# Altium footprint library KNX_MCU_8CH_V1.2.PcbLib: 28 footprints (part 2 of 2)
Each footprint in its own frame and in the unit in brackets; x right, y up, seen from the top. Pads: shape width x height; smd on the part's side, far side on the other; paste and mask are expansions set on the pad; w line width, h text height; cw(c..) or ccw(c..) is an arc to the next point about the centre after c.
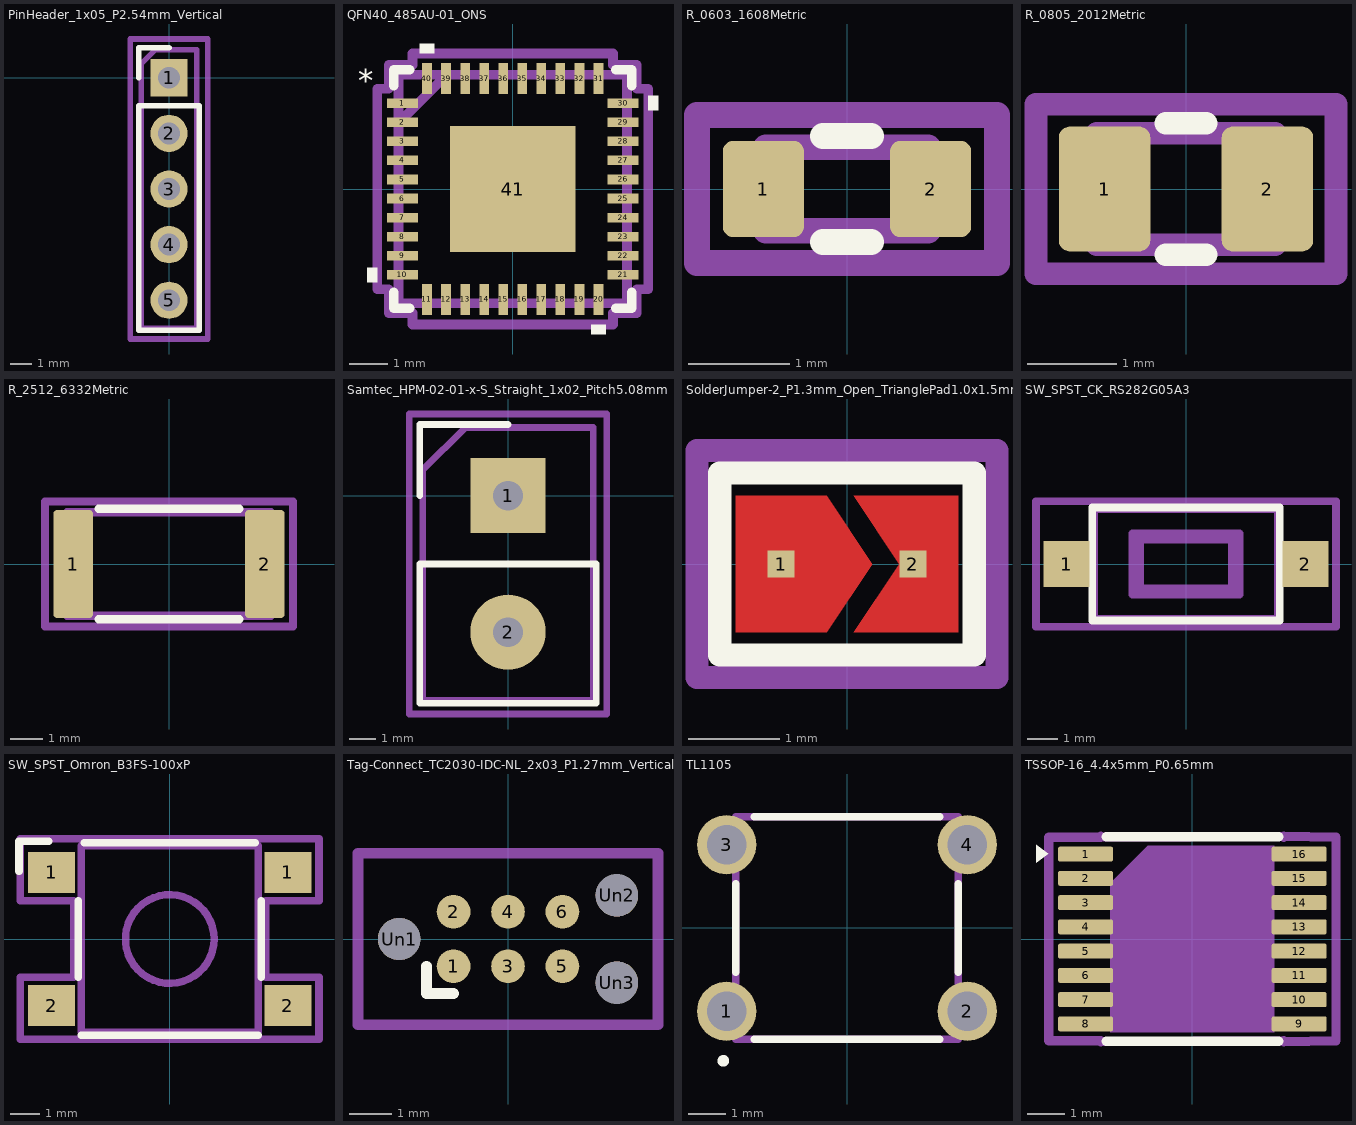
[diagram p1: the footprints below, top view; thin cyan lines are the x and y axes]

## PinHeader_1x05_P2.54mm_Vertical [mm]
pads (5):
  rect 1.7x1.7 hole 1 mask+0.05: 1(0,0)
  round 1.7 hole 1 mask+0.05: 2(0,-2.54) 3(0,-5.08) 4(0,-7.62) 5(0,-10.16)
Top Overlay:
  lines w0.254: -1.38,0 -1.38,1.38 0,1.38 ; -1.38,-11.54 1.38,-11.54 1.38,-1.27 -1.38,-1.27 -1.38,-11.54
Mechanical 30:
  lines w0.254: -1.77,-11.93 1.77,-11.93 1.77,1.77 -1.77,1.77 -1.77,-11.93
Mechanical35:
  lines w0.254: -1.27,-11.43 -1.27,0.635 -0.635,1.27 1.27,1.27 1.27,-11.43 -1.27,-11.43
  text "'.Designator'" at -0.364,-4.85 h1

## QFN40_485AU-01_ONS [mil]
pads (41):
  rect 32x10 smd mask+1.97: 1(-114,88.58) 2(-114,68.9) 3(-114,49.21) 4(-114,29.53) 5(-114,9.84) 6(-114,-9.84) 7(-114,-29.53) 8(-114,-49.21) 9(-114,-68.9) 10(-114,-88.58) 21(114,-88.58) 22(114,-68.9) 23(114,-49.21) 24(114,-29.53) 25(114,-9.84) 26(114,9.84) 27(114,29.53) 28(114,49.21) 29(114,68.9) 30(114,88.58)
  rect 10x32 smd mask+1.97: 11(-88.58,-114) 12(-68.9,-114) 13(-49.21,-114) 14(-29.53,-114) 15(-9.84,-114) 16(9.84,-114) 17(29.53,-114) 18(49.21,-114) 19(68.9,-114) 20(88.58,-114) 31(88.58,114) 32(68.9,114) 33(49.21,114) 34(29.53,114) 35(9.84,114) 36(-9.84,114) 37(-29.53,114) 38(-49.21,114) 39(-68.9,114) 40(-88.58,114)
  rect 130x130 smd mask+1.97: 41(0,0)
Top Overlay:
  region: -81.08,140 -96.08,140 -96.08,150 -81.08,150
  region: 150,81.08 140,81.08 140,96.08 150,96.08
  region: -140,-96.08 -150,-96.08 -150,-81.08 -140,-81.08
  region: 96.08,-150 81.08,-150 81.08,-140 96.08,-140
  lines w10: -123,-106.68 -123,-123 -106.68,-123 ; -123,106.68 -123,123 -106.68,123 ; 106.68,-123 123,-123 123,-106.68 ; 106.68,123 123,123 123,106.68
  text "*" at -159.81,93.82 h39.37
  text "*" at -159.81,93.82 h39.37
Top Paste:
  region: 61.06,3.94 3.94,3.94 3.94,61.06 61.06,61.06
  region: -3.94,3.94 -61.06,3.94 -61.06,61.06 -3.94,61.06
  region: 61.06,-61.06 3.94,-61.06 3.94,-3.94 61.06,-3.94
  region: -3.94,-61.06 -61.06,-61.06 -61.06,-3.94 -3.94,-3.94
Mechanical 30:
  lines w10: -140,-103.58 -128,-103.58 -128,-128 -103.58,-128 -103.58,-140 103.58,-140 103.58,-128 128,-128 128,-103.58 140,-103.58 140,103.58 128,103.58 128,128 103.58,128 103.58,140 -103.58,140 -103.58,128 -128,128 -128,103.58 -140,103.58 -140,-103.58
Mechanical35:
  lines w10: -118,68 -68,118 ; -118,-118 -118,118 118,118 118,-118 -118,-118 ; -118,-94.58 -118,-82.58 -118,-94.58 ; -118,-74.9 -118,-62.9 -118,-74.9 ; -118,-55.21 -118,-43.21 -118,-55.21 ; -118,-35.53 -118,-23.53 -118,-35.53 ; -118,-15.84 -118,-3.84 -118,-15.84 ; -118,3.84 -118,15.84 -118,3.84 ; -118,23.53 -118,35.53 -118,23.53 ; -118,43.21 -118,55.21 -118,43.21 ; -118,62.9 -118,74.9 -118,62.9 ; -118,82.58 -118,94.58 -118,82.58 ; -94.58,-118 -82.58,-118 -94.58,-118 ; -94.58,118 -82.58,118 -94.58,118 ; -74.9,-118 -62.9,-118 -74.9,-118 ; -74.9,118 -62.9,118 -74.9,118 ; -55.21,-118 -43.21,-118 -55.21,-118 ; -55.21,118 -43.21,118 -55.21,118 ; -35.53,-118 -23.53,-118 -35.53,-118 ; -35.53,118 -23.53,118 -35.53,118 ; -15.84,-118 -3.84,-118 -15.84,-118 ; -15.84,118 -3.84,118 -15.84,118 ; 3.84,-118 15.84,-118 3.84,-118 ; 3.84,118 15.84,118 3.84,118 ; 23.53,-118 35.53,-118 23.53,-118 ; 23.53,118 35.53,118 23.53,118 ; 43.21,-118 55.21,-118 43.21,-118 ; 43.21,118 55.21,118 43.21,118 ; 62.9,-118 74.9,-118 62.9,-118 ; 62.9,118 74.9,118 62.9,118 ; 82.58,-118 94.58,-118 82.58,-118 ; 82.58,118 94.58,118 82.58,118 ; 118,-94.58 118,-82.58 118,-94.58 ; 118,-74.9 118,-62.9 118,-74.9 ; 118,-55.21 118,-43.21 118,-55.21 ; 118,-35.53 118,-23.53 118,-35.53 ; 118,-15.84 118,-3.84 118,-15.84 ; 118,3.84 118,15.84 118,3.84 ; 118,23.53 118,35.53 118,23.53 ; 118,43.21 118,55.21 118,43.21 ; 118,62.9 118,74.9 118,62.9 ; 118,82.58 118,94.58 118,82.58
  text "*" at -102.81,93.82 h39.37
  text "*" at -102.81,93.82 h39.37
  text "'.Designator'" at -9.45,-11.07 h39.37

## R_0603_1608Metric [mm]
pads (2):
  rrect25% 0.8x0.95 smd mask+0.05: 1(-0.825,0) 2(0.825,0)
Top Overlay:
  lines w0.254: -0.237,-0.523 0.237,-0.523 ; -0.237,0.523 0.237,0.523
Mechanical 30:
  lines w0.254: -1.48,-0.73 -1.48,0.73 1.48,0.73 1.48,-0.73 -1.48,-0.73
Mechanical35:
  lines w0.254: -0.8,-0.413 -0.8,0.413 0.8,0.413 0.8,-0.413 -0.8,-0.413
  text "'.Designator'" at -0.16,-0.114 h0.4

## R_0805_2012Metric [mm]
pads (2):
  rrect24% 1.025x1.4 smd mask+0.05: 1(-0.913,0) 2(0.913,0)
Top Overlay:
  lines w0.254: -0.227,-0.735 0.227,-0.735 ; -0.227,0.735 0.227,0.735
Mechanical 30:
  lines w0.254: -1.68,-0.95 -1.68,0.95 1.68,0.95 1.68,-0.95 -1.68,-0.95
Mechanical35:
  lines w0.254: -1,-0.625 -1,0.625 1,0.625 1,-0.625 -1,-0.625
  text "'.Designator'" at -0.204,-0.143 h0.5

## R_2512_6332Metric [mm]
pads (2):
  rrect20% 1.225x3.35 smd mask+0.05: 1(-2.963,0) 2(2.963,0)
Top Overlay:
  lines w0.254: -2.177,-1.71 2.177,-1.71 ; -2.177,1.71 2.177,1.71
Mechanical 30:
  lines w0.254: -3.83,-1.93 3.83,-1.93 3.83,1.93 -3.83,1.93 -3.83,-1.93
Mechanical35:
  lines w0.254: -3.15,-1.6 3.15,-1.6 3.15,1.6 -3.15,1.6 -3.15,-1.6
  text "'.Designator'" at 0.414,0.285 h1

## Samtec_HPM-02-01-x-S_Straight_1x02_Pitch5.08mm [mm]
pads (2):
  rect 2.8x2.8 hole 1.1 mask+0.05: 1(0,0)
  round 2.8 hole 1.1 mask+0.05: 2(0,-5.08)
Top Overlay:
  lines w0.254: -3.285,0 -3.285,2.65 0,2.65 ; -3.285,-7.73 3.285,-7.73 3.285,-2.54 -3.285,-2.54 -3.285,-7.73
Mechanical 30:
  lines w0.254: -3.68,-8.13 3.68,-8.13 3.68,3.04 -3.68,3.04 -3.68,-8.13
Mechanical35:
  lines w0.254: -3.175,-7.62 -3.175,0.953 -1.587,2.54 3.175,2.54 3.175,-7.62 -3.175,-7.62
  text "'.Designator'" at -0.361,-2.346 h1
3D body: height 15, standoff 0, extent -0.5,-0.5 0.5,0.5
3D body: height 15, standoff 0, extent -0.5,-5.58 0.5,-4.58

## SolderJumper-2_P1.3mm_Open_TrianglePad1.0x1.5mm [mm]
pads (2):
  rect 0.3x0.3 smd paste-0.3 mask+0.05: 1(-0.725,0) 2(0.725,0)
Top Layer:
  region: 1.225,-0.75 0.075,-0.75 0.575,0 0.075,0.75 1.225,0.75
  region: 0.275,0 -0.225,-0.75 -1.225,-0.75 -1.225,0.75 -0.225,0.75
Top Overlay:
  lines w0.254: -1.4,-1 1.4,-1 1.4,1 -1.4,1 -1.4,-1
Top Solder:
  region: 1.225,-0.75 0.075,-0.75 0.575,0 0.075,0.75 1.225,0.75
  region: 0.275,0 -0.225,-0.75 -1.225,-0.75 -1.225,0.75 -0.225,0.75
  lines w0.254: -1.225,-0.75 1.225,-0.75 1.225,0.75 -1.225,0.75 -1.225,-0.75
Mechanical 30:
  lines w0.254: -1.65,-1.25 1.65,-1.25 1.65,1.25 -1.65,1.25 -1.65,-1.25

## SW_SPST_CK_RS282G05A3 [mm]
pads (2):
  rect 1.5x1.5 smd mask+0.05: 1(-3.9,0) 2(3.9,0)
Top Overlay:
  lines w0.254: -3.06,-1.85 3.06,-1.85 3.06,1.85 -3.06,1.85 -3.06,-1.85
Mechanical 30:
  lines w0.254: -4.9,-2.05 4.9,-2.05 4.9,2.05 -4.9,2.05 -4.9,-2.05
Mechanical35:
  lines w0.254: -3,-1.8 3,-1.8 3,1.8 -3,1.8 -3,-1.8 ; -1.75,-1 1.75,-1 1.75,1 -1.75,1 -1.75,-1 ; -1.5,-0.8 1.5,-0.8 1.5,0.8 -1.5,0.8 -1.5,-0.8
  text "'.Designator'" at 0.449,2.885 h1

## SW_SPST_Omron_B3FS-100xP [mm]
pads (4):
  rect 1.6x1.4 smd mask+0.05: 1(-4,2.25) 1(4,2.25) 2(-4,-2.25) 2(4,-2.25)
Top Overlay:
  lines w0.254: -5.1,2.3 -5.1,3.3 -4.1,3.3 ; -3.1,-1.3 -3.1,1.3 ; -3,-3.25 3,-3.25 ; -2.9,3.25 2.9,3.25 ; 3.1,-1.3 3.1,1.3
Mechanical 30:
  lines w0.254: -5.05,-3.4 -5.05,-1.3 -3.25,-1.3 -3.25,1.3 -5.05,1.3 -5.05,3.4 5.05,3.4 5.05,1.3 3.25,1.3 3.25,-1.3 5.05,-1.3 5.05,-3.4 -5.05,-3.4
Mechanical35:
  circle w0.254: c0,0 r1.5
  lines w0.254: -3,-3.15 -3,3.15 3,3.15 3,-3.15 -3,-3.15
  text "'.Designator'" at -0.485,1.915 h1
3D body: height 3, standoff 0, extent -3,-3 3,3
3D body: height 12, standoff 3, extent -1.6,-1.6 1.6,1.6

## Tag-Connect_TC2030-IDC-NL_2x03_P1.27mm_Vertical [mil]
pads (9):
  round 31 smd paste-31 mask+1.97: 1(-50,-25) 2(-50,25) 3(0,-25) 4(0,25) 5(50,-25) 6(50,25)
  round 39 hole 39 mask+1.97: Un1(-100,0) Un2(100,40) Un3(100,-40)
Top Overlay:
  lines w10: -75,-25 -75,-50 -50,-50
Mechanical 25:
  text "KEEPOUT" at 16.53,4.48 h15.75
Mechanical 30:
  lines w10: -137.8,-78.74 137.8,-78.74 137.8,78.74 -137.8,78.74 -137.8,-78.74
Mechanical35:
  text "'.Designator'" at 8.77,14.33 h39.37

## TL1105 [mm]
pads (4):
  round 1.6 hole 1.06: 1(-3.25,-2.25) 2(3.25,-2.25) 3(-3.25,2.25) 4(3.25,2.25)
Top Overlay:
  circle w0.2: c-3.341,-3.588 r0.057
  lines w0.2: -3,-1.2 -3,1.2 ; -2.5,-3 2.5,-3 ; -2.5,3 2.5,3 ; 3,-1.2 3,1.2
Mechanical 13:
  lines w0.2: -3,-3 -3,3 3,3 3,-3 -3,-3
3D body: height 5, standoff 0, extent -3,-3 3,3
3D body: height 20.5, standoff 5, extent -1.6,-1.6 1.6,1.6

## TSSOP-16_4.4x5mm_P0.65mm [mm]
pads (16):
  rrect25% 1.475x0.4 smd mask+0.05: 1(-2.863,2.275) 2(-2.863,1.625) 3(-2.863,0.975) 4(-2.863,0.325) 5(-2.863,-0.325) 6(-2.863,-0.975) 7(-2.863,-1.625) 8(-2.863,-2.275) 9(2.863,-2.275) 10(2.863,-1.625) 11(2.863,-0.975) 12(2.863,-0.325) 13(2.863,0.325) 14(2.863,0.975) 15(2.863,1.625) 16(2.863,2.275)
Top Overlay:
  region: -3.86,2.28 -4.19,2.04 -4.19,2.52
  lines w0.254: -2.31,-2.735 2.31,-2.735 ; -2.31,2.735 2.31,2.735
Mechanical 30:
  lines w0.254: -2.45,2.75 -2.45,2.73 ; 2.45,2.73 2.45,2.75 ; -2.45,2.73 -3.85,2.73 -3.85,-2.73 -2.45,-2.73 -2.45,-2.75 2.45,-2.73 2.45,-2.75 3.85,-2.73 3.85,2.73 2.45,2.75 ; -2.45,2.73 2.45,2.75
Mechanical35:
  region: 2.2,-2.5 -2.2,-2.5 -2.2,1.5 -1.2,2.5 2.2,2.5
  text "'.Designator'" at -0.281,-0.284 h1